# Altium footprint library SparkFun-DiscreteSemi.PCBLIB: 24 footprints (part 1 of 2)
Each footprint in its own frame and in the unit in brackets; x right, y up, seen from the top. Pads: shape width x height; smd on the part's side, far side on the other; paste and mask are expansions set on the pad; w line width, h text height; cw(c..) or ccw(c..) is an arc to the next point about the centre after c.
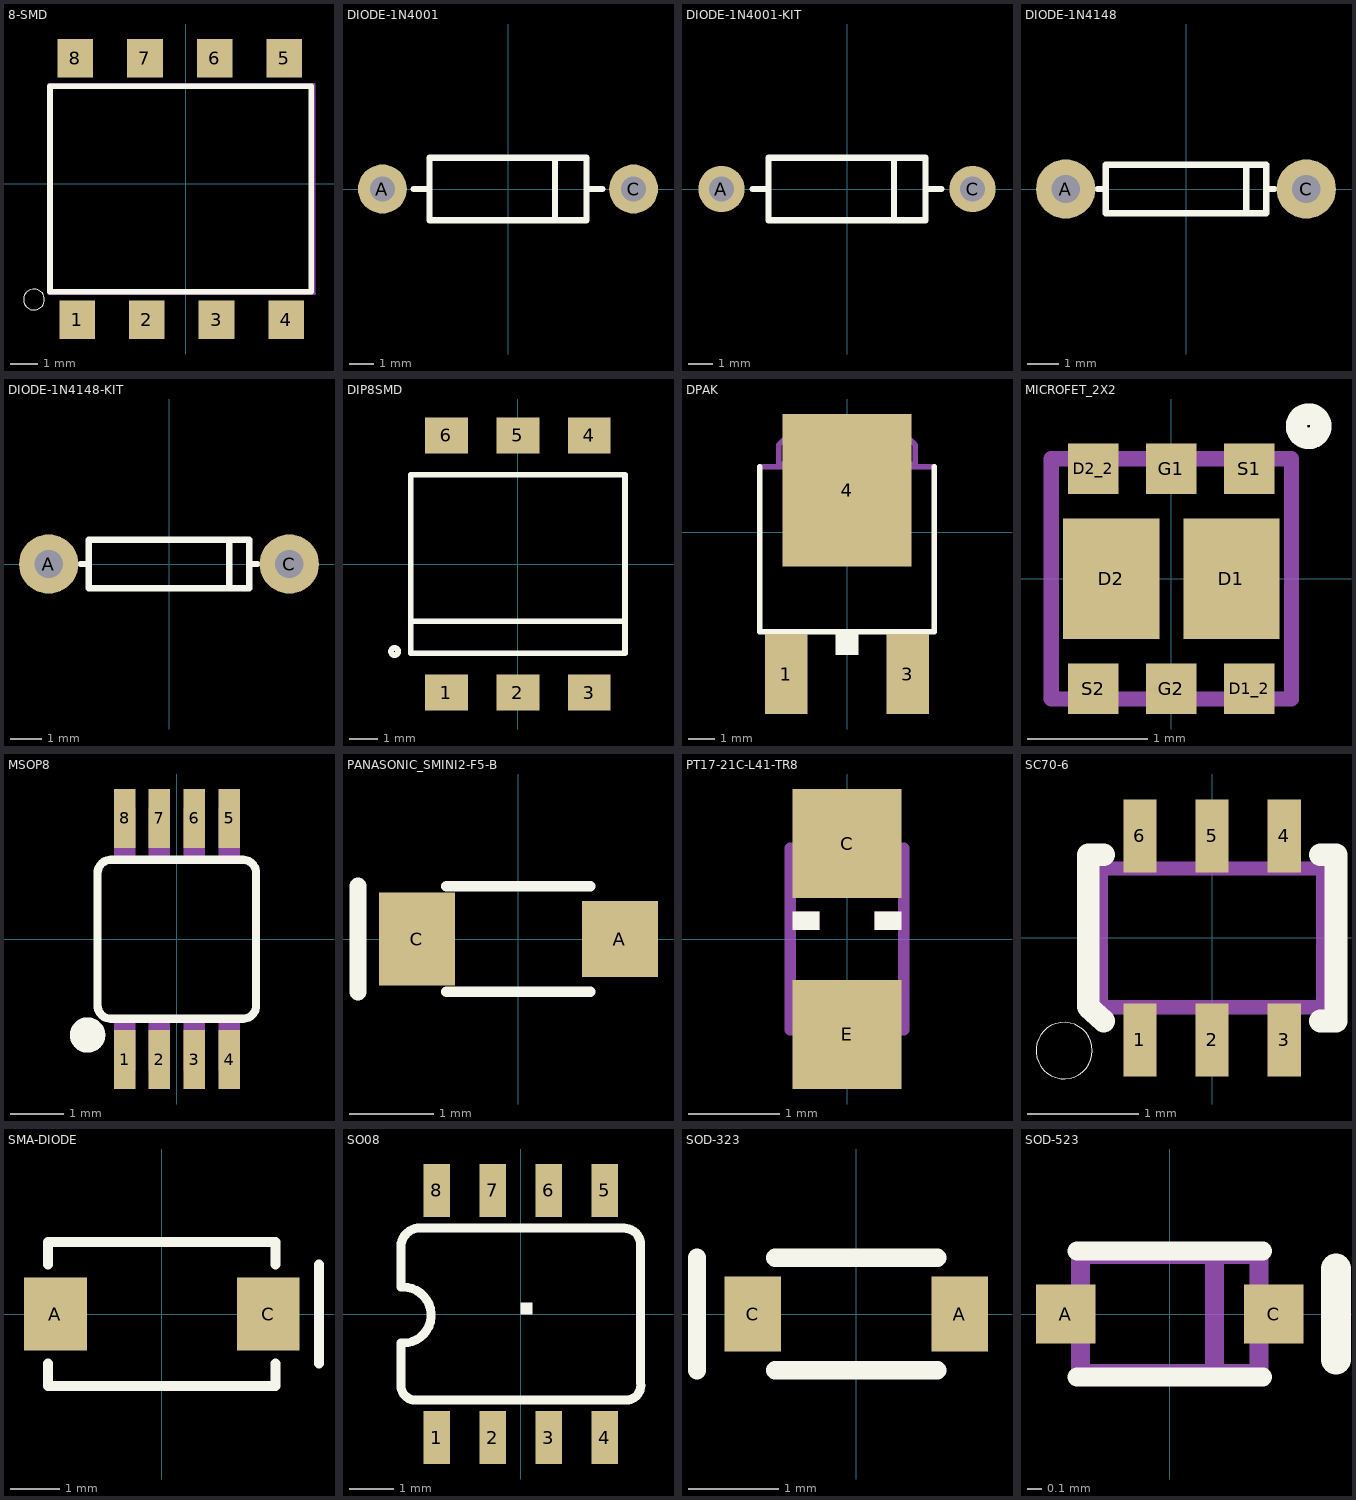
[diagram p0: the footprints below, top view; thin cyan lines are the x and y axes]

## 8-SMD [mil]
pads (8):
  rect 51.18x55.12 smd: 1(-155.91,-195.28) 2(-55.91,-195.28) 3(44.09,-195.28) 4(144.09,-195.28) 5(141.34,180.32) 6(41.34,180.32) 7(-58.66,180.32) 8(-158.66,180.32)
Top Overlay:
  circle w0: c-218.03,-166.18 r15
  lines w8: -195,-155 180,-155 180,140 -195,140 -195,-155
Mechanical 16:
  lines w3.94: 184.25,-156.69 184.25,142.52 -196.85,142.52 -196.85,-157.48 184.65,-157.48

## DIODE-1N4001 [mil]
pads (2):
  round 78 hole 39.37: A(-200,0) C(200,0)
Top Overlay:
  lines w10: -150,0 -125,0 ; 150,0 125,0 ; -125,0 -125,50 75,50 ; -125,0 -125,-50 75,-50 ; 75,-50 125,-50 125,0 ; 75,-50 75,50 ; 75,50 125,50 125,0

## DIODE-1N4001-KIT [mil]
pads (2):
  round 74 hole 40: A(-200,0) C(200,0)
Top Overlay:
  lines w10: -150,0 -125,0 ; 150,0 125,0 ; -125,0 -125,50 75,50 ; -125,0 -125,-50 75,-50 ; 75,-50 125,-50 125,0 ; 75,-50 75,50 ; 75,50 125,50 125,0
Top Solder:
  circle w0: c-200,0 r20
  circle w0: c200,0 r20
Bottom Solder:
  circle w0: c-200,0 r39
  circle w0: c200,0 r39

## DIODE-1N4148 [mil]
pads (2):
  round 74 hole 35.43: A(-150,0) C(150,0)
Top Overlay:
  lines w8: -110,0 -100,0 ; 75,-25 75,25 ; 110,0 100,0 ; -100,0 -100,-30 100,-30 100,0 ; -100,0 -100,30 100,30 100,0

## DIODE-1N4148-KIT [mil]
pads (2):
  round 74 hole 35.43: A(-150,0) C(150,0)
Top Overlay:
  lines w8: -110,0 -100,0 ; 75,-25 75,25 ; 110,0 100,0 ; -100,0 -100,-30 100,-30 100,0 ; -100,0 -100,30 100,30 100,0
Top Solder:
  circle w0: c-150,0 r18
  circle w0: c-150,0 r18
  circle w0: c150,0 r18
Bottom Solder:
  circle w0: c-150,0 r37
  circle w0: c150,0 r37

## DIP8SMD [mil]
pads (6):
  rect 60x50 smd: 1(-100,-180) 2(0,-180) 3(100,-180) 4(100,180) 5(0,180) 6(-100,180)
Top Overlay:
  circle w8: c-172.5,-122.5 r5
  lines w8: -150,-80 -150,-125 150,-125 150,-80 ; -150,-80 -150,125 150,125 150,-80 ; -150,-80 150,-80

## DPAK [mm]
pads (3):
  rect 1.6x3 smd: 1(-2.28,-5.31) 3(2.28,-5.31)
  rect 4.826x5.715 smd: 4(0,1.588)
Top Overlay:
  rectangle: -0.432,-4.593 0.432,-3.831
  lines w0.203: -3.277,2.465 -3.277,-3.729 3.277,-3.729 3.277,2.465
Mechanical 16:
  rectangle: -2.718,-6.726 -1.854,-3.831
  rectangle: 1.854,-6.726 2.718,-3.831
  region: 0,0 0.254,0 0.254,0.254 0,0.254
  lines w0.203: -3.277,2.465 3.277,2.465 ; -2.565,2.567 -2.565,3.278 -2.108,3.735 2.108,3.735 2.565,3.278 2.565,2.567 -2.565,2.567

## MICROFET_2X2 [mm]
pads (8):
  rect 0.8x1 smd: D1(0.5,0) D2(-0.5,0)
  rect 0.42x0.42 smd: D1_2(0.65,-0.915) D2_2(-0.65,0.915) G1(0,0.915) G2(0,-0.915) S1(0.65,0.915) S2(-0.65,-0.915)
Top Overlay:
  circle w0.178: c1.143,1.27 r0.102
Mechanical 16:
  lines w0.127: -1,-1 1,-1 1,1 -1,1 -1,-1

## MSOP8 [mil]
pads (8):
  rect 15.75x43.31 smd: 1(-38.39,-88.58) 2(-12.8,-88.58) 3(12.8,-88.58) 4(38.39,-88.58) 5(38.39,88.58) 6(12.8,88.58) 7(-12.8,88.58) 8(-38.39,88.58)
Top Overlay:
  circle w14: c-65.59,-70.59 r6
  lines w6: -58.27,-48.82 ccw(c-48.43,-48.82) -48.43,-58.66 ; -58.27,-48.43 -58.27,48.43 cw(c-48.43,48.43) -48.43,58.27 ; -48.03,-58.66 48.82,-58.66 ; -48.03,58.27 48.82,58.27 ; 48.43,-58.66 ccw(c48.43,-48.82) 58.27,-48.82 58.27,48.43 ccw(c48.43,48.43) 48.43,58.27
Mechanical 16:
  rectangle: -46.26,-96.46 -30.51,-61.02
  rectangle: -20.67,-96.46 -4.92,-61.02
  rectangle: 4.92,-96.46 20.67,-61.02
  rectangle: 30.51,-96.46 46.26,-61.02
  rectangle: 30.51,61.02 46.26,96.46
  rectangle: 4.92,61.02 20.67,96.46
  rectangle: -20.67,61.02 -4.92,96.46
  rectangle: -46.26,61.02 -30.51,96.46

## PANASONIC_SMINI2-F5-B [mil]
pads (2):
  rect 35.43x35.43 smd: A(47.24,0)
  rect 35.43x43.31 smd: C(-47.24,0)
Top Overlay:
  lines w5: -33.46,-24.61 33.46,-24.61 ; -33.46,24.61 33.46,24.61
  lines w8: -74.69,-24.61 -74.69,24.61

## PT17-21C-L41-TR8 [mil]
pads (2):
  rect 47.24x47.24 smd: C(0,41.34) E(0,-41.34)
Top Overlay:
  rectangle: 11.81,3.94 23.62,11.81
  rectangle: -23.62,3.94 -11.81,11.81
Mechanical 16:
  rectangle: -23.62,3.94 -11.81,11.81
  rectangle: 11.81,3.94 23.62,11.81
  lines w5: -15.75,39.37 ccw(c0,39.37) 15.75,39.37 ; -13.78,-31.5 -24.61,-31.5 ; 13.78,-31.5 23.62,-31.5 ; -24.61,-31.5 -24.61,-39.37 -15.75,-39.37 ; -24.61,-31.5 -24.61,39.37 24.61,39.37 24.61,-39.37 15.75,-39.37 ; -15.75,-39.37 15.75,-39.37 ; -15.75,-39.37 cw(c0,-39.37) 15.75,-39.37

## SC70-6 [mm]
pads (6):
  rect 0.3x0.66 smd: 1(-0.65,-0.92) 2(0,-0.92) 3(0.65,-0.92) 4(0.65,0.92) 5(0,0.92) 6(-0.65,0.92)
Top Overlay:
  circle w0: c-1.333,-1.016 r0.254
  lines w0.203: -0.978,-0.749 -1.118,-0.622 -1.118,0.749 -0.978,0.749 ; 0.978,-0.749 1.118,-0.749 1.118,0.749 0.978,0.749
Mechanical 16:
  rectangle: -0.102,0.686 0.102,1.041
  rectangle: -0.102,-1.041 0.102,-0.686
  rectangle: 0.548,0.686 0.752,1.041
  rectangle: -0.752,0.686 -0.548,1.041
  rectangle: -0.752,-1.041 -0.548,-0.686
  rectangle: 0.548,-1.041 0.752,-0.686
  lines w0.127: -1,-0.625 -1,0.625 1,0.625 1,-0.625 -1,-0.625

## SMA-DIODE [mil]
pads (2):
  rect 50x57.87 smd: A(-84.65,0) C(84.65,0)
Top Overlay:
  lines w8: -90.55,-39.37 -90.55,-57.09 90.55,-57.09 90.55,-39.37 ; -90.55,39.37 -90.55,57.09 90.55,57.09 90.55,39.37 ; 125,-39.37 125,39.37

## SO08 [mil]
pads (8):
  rect 23.62x47.24 smd: 1(-75,-110.24) 2(-25,-110.24) 3(25,-110.24) 4(75,-110.24) 5(75,110.24) 6(25,110.24) 7(-25,110.24) 8(-75,110.24)
Top Overlay:
  region: 0,0 10,0 10,10 0,10
  lines w8: -107,-26 -107,-65.56 ccw(c-93.97,-63.6) -92,-76.63 95.94,-76.63 ccw(c93.97,-63.6) 107,-61.63 107,61.63 ccw(c92,61.63) 92,76.63 -92,76.63 ccw(c-90.03,59.66) -107,57.69 ; -107,24 -107,57.19 ; -105,-26 ccw(c-105,-1) -105,24
Mechanical 16:
  rectangle: -85,-130 -65,-89.5
  rectangle: -35,-130 -15,-89.5
  rectangle: 15,-130 35,-89.5
  rectangle: 65,-130 85,-89.5
  rectangle: -35,90 -15,130
  rectangle: 15,90 35,130
  rectangle: 65,90 85,130
  rectangle: -85,90 -65,130

## SOD-323 [mil]
pads (2):
  rect 24.8x32.68 smd: A(45.28,0) C(-45.28,0)
Top Overlay:
  lines w8: -69.69,-24.61 -69.69,24.61 ; -35.43,-24.61 35.43,-24.61 ; -35.43,24.61 35.43,24.61

## SOD-523 [mil]
pads (2):
  rect 15.75x15.75 smd: A(-27.56,0) C(27.56,0)
Top Overlay:
  lines w5: -24.61,-16.73 24.61,-16.73 ; -24.61,16.73 24.61,16.73
  lines w8: 44,-12 44,12
Mechanical 16:
  lines w5: -23.62,-3.94 -23.62,3.94 ; -23.62,-3.94 -23.62,-15.75 11.81,-15.75 ; -23.62,-3.94 -31.5,-3.94 -31.5,3.94 -23.62,3.94 ; -23.62,3.94 -23.62,15.75 11.81,15.75 ; 11.81,-15.75 23.62,-15.75 23.62,-3.94 ; 11.81,-15.75 11.81,15.75 ; 11.81,15.75 23.62,15.75 23.62,3.94 ; 23.62,-3.94 23.62,3.94 ; 23.62,-3.94 31.5,-3.94 31.5,3.94 23.62,3.94